# Altium schematic symbol library GENERIC_FORBIDDEN.SchLib: 1 symbol
Pins are listed as number, name and electrical type; pins without a type are passive.

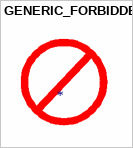
[diagram p0: symbol GENERIC_FORBIDDEN]

## GENERIC_FORBIDDEN
designator ?